# EAGLE library part FPC10 (library laforge)
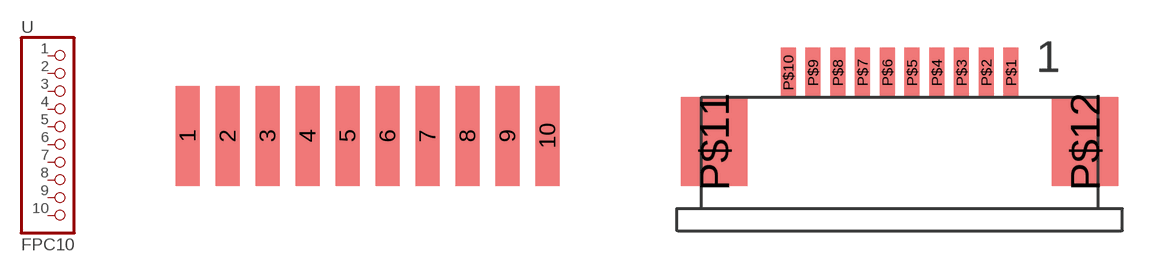
[diagram p29: symbol with the pads of FPC_SOLDER_10; footprints FPC_SOLDER_10, TE184952-0]

Designator prefix -

## FPC10  [FPC_SOLDER_10]
1  1  pas
2  2  pas
3  3  pas
4  4  pas
5  5  pas
6  6  pas
7  7  pas
8  8  pas
9  9  pas
10  10  pas

## FPC10J  [TE184952-0]
P$1  1  pas
P$2  2  pas
P$3  3  pas
P$4  4  pas
P$5  5  pas
P$6  6  pas
P$7  7  pas
P$8  8  pas
P$9  9  pas
P$10  10  pas

## Footprint FPC_SOLDER_10 (pad centres in mm)
smd 0.6 x 2.5: 1 0,0.5; 2 1,0.5; 3 2,0.5; 4 3,0.5; 5 4,0.5; 6 5,0.5; 7 6,0.5; 8 7,0.5; 9 8,0.5; 10 9,0.5

## Footprint TE184952-0 (pad centres in mm)
smd 0.61 x 2: P$1 4.5,1; P$2 3.5,1; P$3 2.5,1; P$4 1.5,1; P$5 0.5,1; P$6 -0.5,1; P$7 -1.5,1; P$8 -2.5,1; P$9 -3.5,1; P$10 -4.5,1
smd 2.68 x 3.6: P$11 -7.49,-1.8; P$12 7.49,-1.8